# Altium footprint library H7019FNL.PcbLib: 1 footprints
Each footprint in its own frame and in the unit in brackets; x right, y up, seen from the top. Pads: shape width x height; smd on the part's side, far side on the other; paste and mask are expansions set on the pad; w line width, h text height; cw(c..) or ccw(c..) is an arc to the next point about the centre after c.
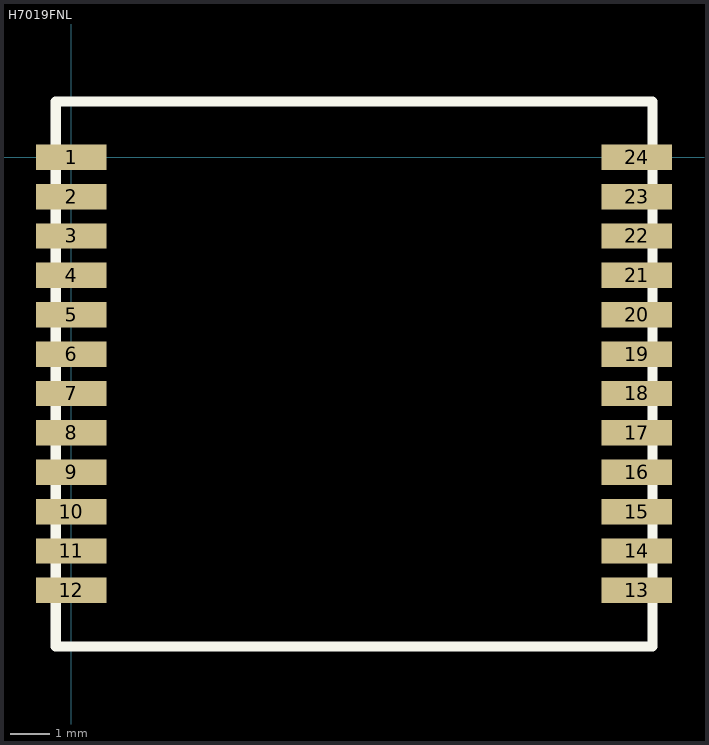
[diagram p0: the footprint, top view; thin cyan lines are the x and y axes]

## H7019FNL [mm]
pads (24):
  rect 1.775x0.64 smd: 1(0,0) 2(0,-0.99) 3(0,-1.98) 4(0,-2.97) 5(0,-3.96) 6(0,-4.95) 7(0,-5.94) 8(0,-6.93) 9(0,-7.92) 10(0,-8.91) 11(0,-9.9) 12(0,-10.89) 13(14.225,-10.89) 14(14.225,-9.9) 15(14.225,-8.91) 16(14.225,-7.92) 17(14.225,-6.93) 18(14.225,-5.94) 19(14.225,-4.95) 20(14.225,-3.96) 21(14.225,-2.97) 22(14.225,-1.98) 23(14.225,-0.99) 24(14.225,0)
Top Overlay:
  lines w0.254: -0.387,-12.3 14.613,-12.3 14.613,1.4 -0.387,1.4 -0.387,-12.3
  text "." at -0.9,0.79 h0.38